# EAGLE library part 61000621121 (library Wuerth_Elektronik_eiCan_Pin_&_Socked_Headers_v1.3)
WR-PHD 2.54mm Dual SMT Pin Header, 6 Pins
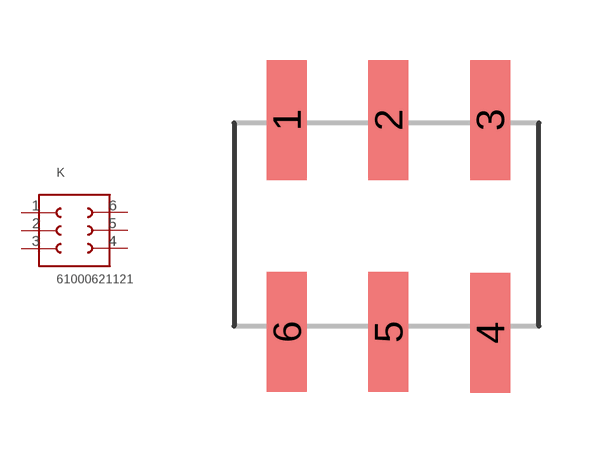
[diagram p90: symbol with the pads of 61000621121; footprint 61000621121]

Designator prefix K

## 61000621121  [61000621121]
1  1  pas
2  2  pas
3  3  pas
4  4  pas
5  5  pas
6  6  pas

## Footprint 61000621121 (pad centres in mm)
WR-PHD 2.54mm Dual SMT Pin Header, 6 Pins
smd 1 x 3: 1 -5.08,2.54; 2 -2.54,2.54; 3 0,2.54; 4 0,-2.79; 5 -2.54,-2.76; 6 -5.08,-2.76